# Altium footprint library CAPACITOR.PcbLib: 21 footprints (part 2 of 2)
Each footprint in its own frame and in the unit in brackets; x right, y up, seen from the top. Pads: shape width x height; smd on the part's side, far side on the other; paste and mask are expansions set on the pad; w line width, h text height; cw(c..) or ccw(c..) is an arc to the next point about the centre after c.
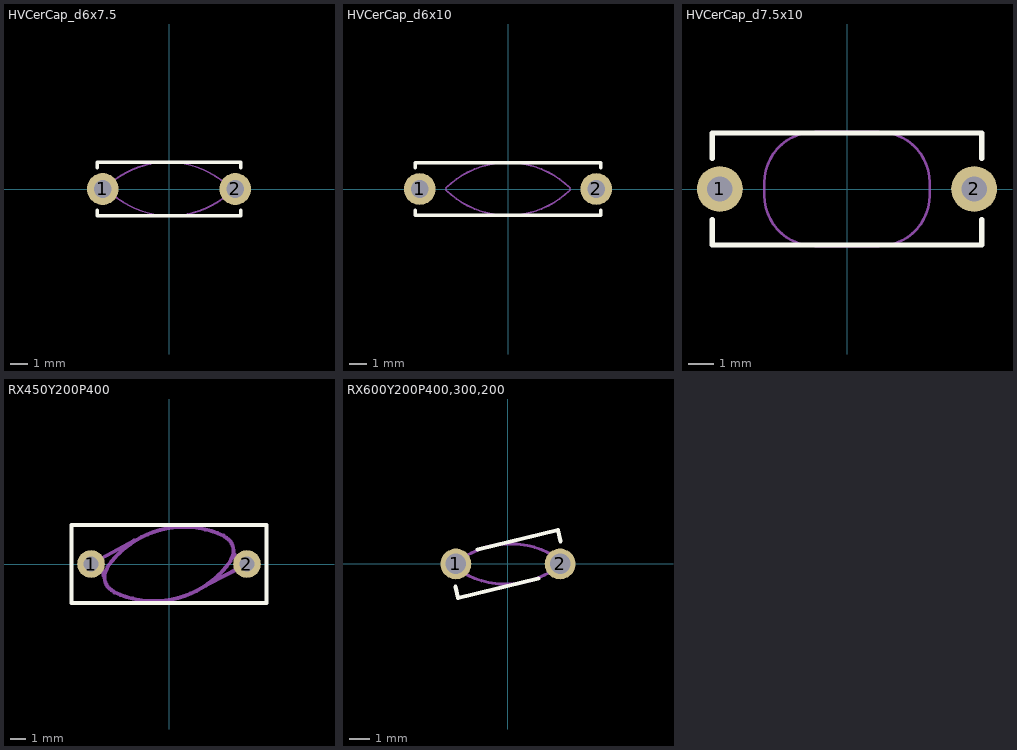
[diagram p1: the footprints below, top view; thin cyan lines are the x and y axes]

## HVCerCap_d6x7.5 [mm]
pads (2):
  round 1.8 hole 1: 1(-3.75,0) 2(3.75,0)
Top Overlay:
  lines w0.2: -4.05,-1.2 -4.05,-1.5 4.05,-1.5 4.05,-1.2 ; -4.05,1.2 -4.05,1.5 4.05,1.5 4.05,1.2
Top Assembly:
  lines w0.1: -3.678,-0.022 cw(c-0.07,-3.484) 3.508,0.008 ; -3.508,-0.008 ccw(c0.07,3.484) 3.678,0.022
3D body "User Library-D6x7_5.STEP": height 9, standoff -2, extent -4.05,-1.5 4.05,1.5

## HVCerCap_d6x10 [mm]
pads (2):
  round 1.8 hole 1: 1(-5,0) 2(5,0)
Top Overlay:
  lines w0.2: -5.25,-1.2 -5.25,-1.5 5.25,-1.5 5.25,-1.2 ; -5.25,1.2 -5.25,1.5 5.25,1.5 5.25,1.2
Top Assembly:
  lines w0.1: -3.51,-0.061 ccw(c0,3.5) 0,-1.5 ccw(c0,3.5) 3.51,-0.061 ; -3.51,0.061 cw(c0,-3.5) 0,1.5 cw(c0,-3.5) 3.51,0.061
3D body "User Library-D6x10.STEP": height 9, standoff -2, extent -5.3,-1.5 5.3,1.5

## HVCerCap_d7.5x10 [mm]
pads (2):
  round 1.8 hole 1: 1(-5,0) 2(5,0)
Top Overlay:
  lines w0.2: -5.3,-1.2 -5.3,-2.2 5.3,-2.2 5.3,-1.2 ; -5.3,1.2 -5.3,2.2 5.3,2.2 5.3,1.2
Top Assembly:
  lines w0.1: -3.25,-0.25 ccw(c-1.25,-0.25) -1.25,-2.25 1.25,-2.25 ccw(c1.25,-0.25) 3.25,-0.25 3.25,0.25 ccw(c1.25,0.25) 1.25,2.25 -1.25,2.25 ccw(c-1.25,0.25) -3.25,0.25 -3.25,-0.25
3D body "User Library-D7_5x10.STEP": height 10.75, standoff -2.5, extent -5.35,-2.25 5.35,2.25

## RX450Y200P400 [mm]
pads (2):
  round 1.8 hole 1: 1(-5.08,0) 2(5.08,0)
Top Overlay:
  lines w0.254: -6.35,-2.54 6.35,-2.54 6.35,2.54 -6.35,2.54 -6.35,-2.54
Top Assembly:
  circle w0.254: c5.08,0 r0.254
  circle w0.254: c-5.08,0 r0.254
  lines w0.254: -5.08,-0.254 cw(c-4.826,-0.762) -4.258,-0.762 ; -5.08,0 -2.286,1.524 ; -4.022,-0.272 ccw(c-3.189,-0.855) -3.619,-1.775 ; -4.007,-0.184 cw(c0.986,-3.68) 3.562,1.845 ; -3.562,-1.845 ccw(c-0.986,3.68) 4.007,0.184 ; 2.413,-1.397 5.08,0 ; 3.619,1.775 cw(c3.189,0.855) 4.022,0.272 ; 4.258,0.635 ccw(c4.826,0.635) 5.167,0.181
3D body "User Library-capacitor 10mm pitch.SLDPRT": height 12.5, standoff -4, extent -5.5,-2.5 5.5,2.5

## RX600Y200P400,300,200 [mm]
pads (2):
  round 1.5 hole 1: 1(-2.54,0) 2(2.54,0)
Top Overlay:
  lines w0.203: -2.568,-1.112 -2.437,-1.657 1.473,-0.711 ; -1.473,0.711 2.437,1.657 2.568,1.112
Top Assembly:
  circle w0.254: c-2.693,0 r0.1
  circle w0.254: c2.693,0 r0.1
  lines w0.15: -2.794,0 ccw(c-0.101,3.163) 2.591,0 ; -2.591,0 cw(c0.101,-3.164) 2.794,0
3D body "User Library-Cer-Cap2_5 (5x1_5).step": height 7, standoff -1, extent -2.924,-1.745 2.924,1.696